# EAGLE library part AN7142 (library Audio-Power-amlifier V.2.0)
0,9W DUAL AUDIO POWER AMPLIFIER
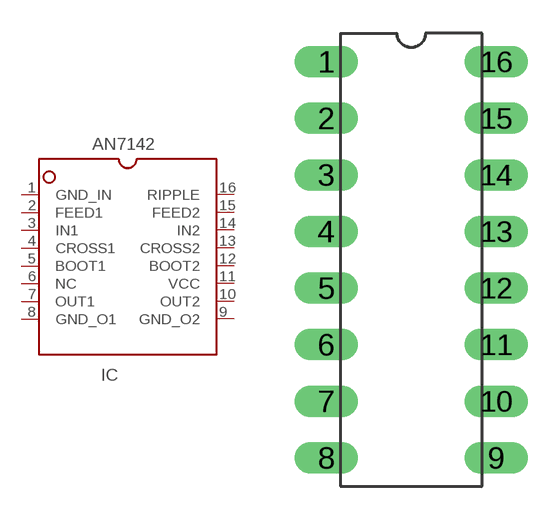
[diagram p137: symbol with the pads of DIL16; footprint DIL16]

Designator prefix IC

## AN7142  [DIL16]
1  GND_IN  pwr
2  FEED1
3  IN1  in
4  CROSS1
5  BOOT1
6  NC  nc
7  OUT1  out
8  GND_O1  pwr
9  GND_O2  pwr
10  OUT2  out
11  VCC  pwr
12  BOOT2
13  CROSS2
14  IN2  in
15  FEED2
16  RIPPLE

## Footprint DIL16 (pad centres in mm)
drill 0.8 pad 1.422 long: 1 -3.81,8.89; 2 -3.81,6.35; 3 -3.81,3.81; 4 -3.81,1.27; 5 -3.81,-1.27; 6 -3.81,-3.81; 7 -3.81,-6.35; 8 -3.81,-8.89; 9 3.81,-8.89; 10 3.81,-6.35; 11 3.81,-3.81; 12 3.81,-1.27; 13 3.81,1.27; 14 3.81,3.81; 15 3.81,6.35; 16 3.81,8.89